# EAGLE library part BODY-P (library BODY-P)
17 Pin Socket for Shield2Go Boards
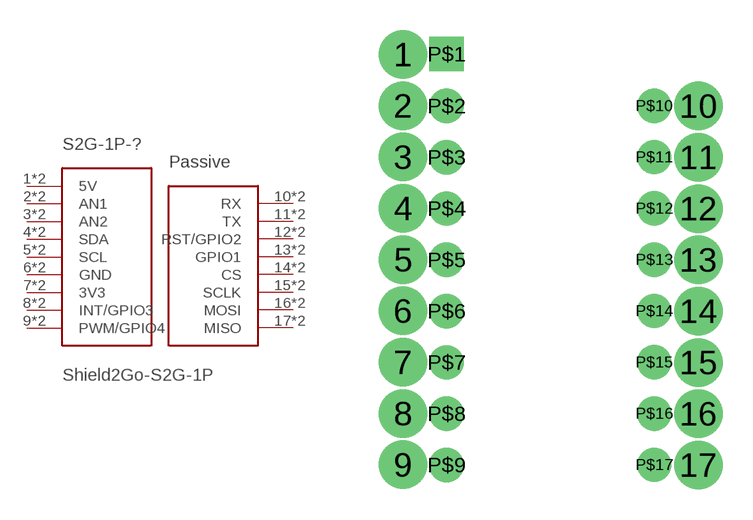
[diagram p0: symbol with the pads of BODY-P; footprint BODY-P]

Designator prefix -

## BODY-P  [BODY-P]
1  5V
2  AN1
3  AN2
4  SDA
5  SCL
6  GND
7  3V3
8  INT/GPIO3
9  PWM/GPIO4
10  RX
11  TX
12  RST/GPIO2
13  GPIO1
14  CS
15  SCLK
16  MOSI
17  MISO
P$1  5V
P$2  AN1
P$3  AN2
P$4  SDA
P$5  SCL
P$6  GND
P$7  3V3
P$8  INT/GPIO3
P$9  PWM/GPIO4
P$10  RX
P$11  TX
P$12  RST/GPIO2
P$13  GPIO1
P$14  CS
P$15  SCLK
P$16  MOSI
P$17  MISO

## Footprint BODY-P (pad centres in mm)
drill 1.6 pad 1.7: 1 -0.35,21.13; 2 -0.35,18.59; 3 -0.35,16.05; 4 -0.35,13.51; 5 -0.35,10.97; 6 -0.35,8.43; 7 -0.35,5.89; 8 -0.35,3.35; 9 -0.35,0.81; 10 14.26,18.58; 11 14.26,16.04; 12 14.26,13.5; 13 14.26,10.96; 14 14.26,8.42; 15 14.26,5.88; 16 14.26,3.34; 17 14.26,0.8
drill 1.1 pad 1.7 square: P$1 1.8,21.15
drill 1.1 pad 1.7: P$2 1.8,18.58; P$3 1.8,16.04; P$4 1.8,13.5; P$5 1.8,10.96; P$6 1.8,8.42; P$7 1.8,5.88; P$8 1.8,3.34; P$9 1.8,0.8; P$10 12.08,18.59; P$11 12.08,16.05; P$12 12.08,13.51; P$13 12.08,10.97; P$14 12.08,8.43; P$15 12.08,5.89; P$16 12.08,3.35; P$17 12.08,0.81